# Altium footprint library Diod.PcbLib: 9 footprints
Each footprint in its own frame and in the unit in brackets; x right, y up, seen from the top. Pads: shape width x height; smd on the part's side, far side on the other; paste and mask are expansions set on the pad; w line width, h text height; cw(c..) or ccw(c..) is an arc to the next point about the centre after c.
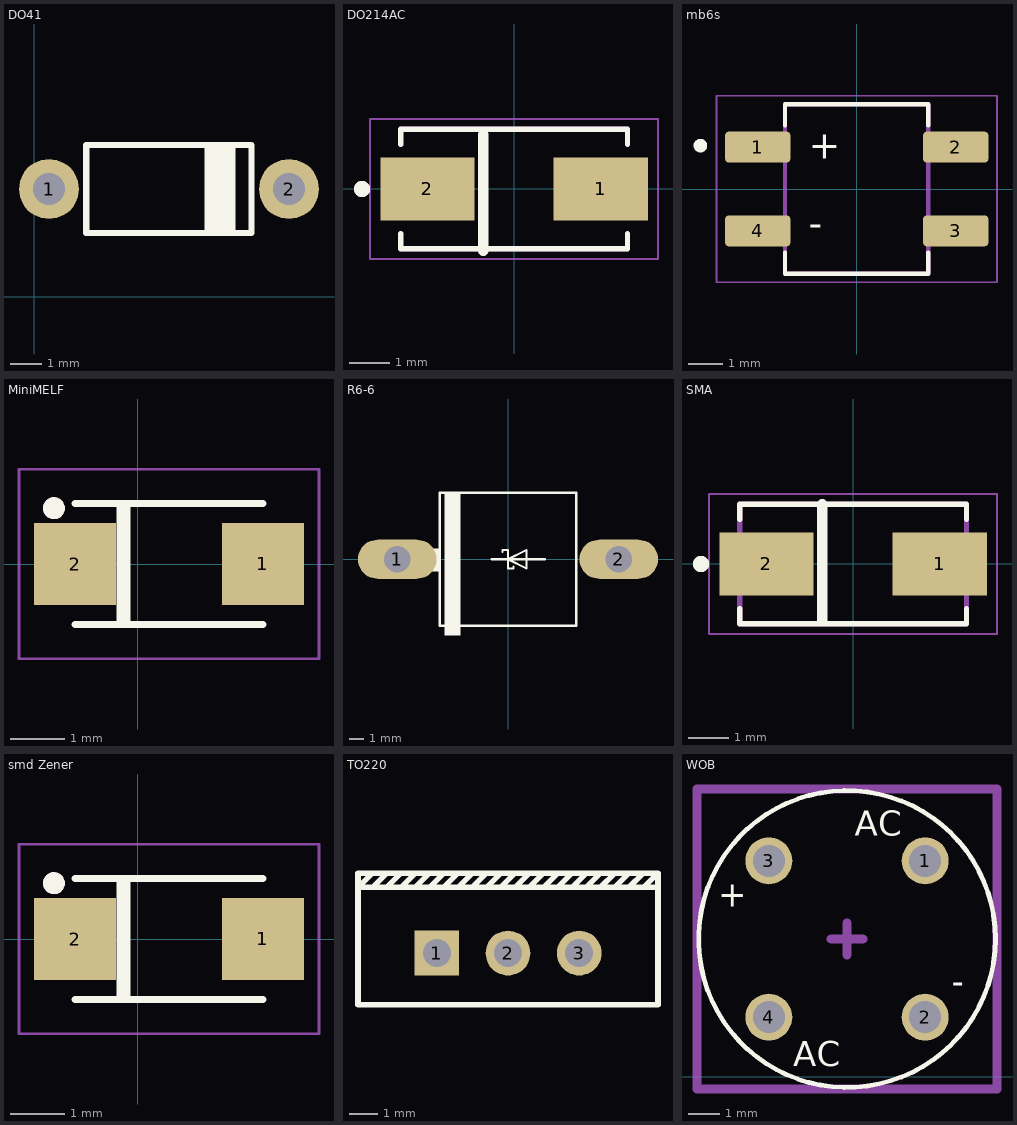
[diagram p0: the footprints below, top view; thin cyan lines are the x and y axes]

## DO41 [mil]
pads (2):
  round 75 hole 40: 1(18.62,134.53) 2(318.62,134.53)
Top Overlay:
  rectangle: 212.72,79.53 251.61,189.53
  lines w7.87: 65.08,79.53 65.08,189.53 271.77,189.53 271.77,79.53 65.08,79.53
3D body "1N4007.STEP": height 131.24, standoff -39.37, extent 2.62,82.03 333.62,187.03

## DO214AC [mm]
pads (2):
  rect 2.33x1.56 smd: 1(2.14,0) 2(-2.14,0)
Top Overlay:
  circle w0.2: c-3.755,0 r0.1
  lines w0.127: -2.8,-1.1 -2.8,-1.475 2.8,-1.475 2.8,-1.1 ; -2.8,1.1 -2.8,1.475 2.8,1.475 2.8,1.1
  lines w0.254: -0.762,-1.524 -0.762,1.348
Mechanical 13:
  circle w0.2: c-3.755,0 r0.1
  lines w0.127: -2.8,-1.475 2.8,-1.475 ; -2.8,1.475 2.8,1.475
Mechanical 15:
  lines w0.05: -3.555,-1.725 -3.555,1.725 3.555,1.725 3.555,-1.725 -3.555,-1.725
3D body "SMAJ5.0CA.STEP": height 2.55, standoff 0.05, extent -2.443,-1.397 2.697,1.163

## mb6s [mm]
pads (4):
  rrect23% 1.91x0.91 smd: 1(-2.9,1.225) 2(2.9,1.225) 3(2.9,-1.225) 4(-2.9,-1.225)
Top Overlay:
  circle w0.2: c-4.58,1.27 r0.1
  lines w0.127: -2.1,-1.86 -2.1,-2.48 2.1,-2.48 2.1,-1.86 ; -2.1,1.86 -2.1,2.48 2.1,2.48 2.1,1.86
  text "-" at -1.4,-1.4 h0.81
  text "+" at -1.399,0.89 h0.81
Mechanical 13:
  lines w0.127: -2.1,-2.48 -2.1,2.48 2.1,2.48 2.1,-2.48 -2.1,-2.48
Mechanical 15:
  lines w0.05: -4.11,-2.73 -4.11,2.73 4.11,2.73 4.11,-2.73 -4.11,-2.73
3D body: height 0.5, standoff 0, extent 1.905,0.762 3.81,1.651
3D body: height 0.5, standoff 0, extent 1.905,-1.651 3.81,-0.762
3D body: height 0.5, standoff 0, extent -3.81,0.762 -1.905,1.651
3D body: height 0.5, standoff 0, extent -3.81,-1.651 -1.905,-0.762
3D body: height 1, standoff 0.1, extent -2.032,-2.54 2.032,2.413

## MiniMELF [mm]
pads (2):
  rect 1.5x1.5 smd: 1(2.282,0) 2(-1.139,0)
Top Overlay:
  circle w0.2: c-1.524,1.016 r0.1
  lines w0.127: -1.139,-1.1 2.282,-1.1 ; -1.139,1.1 2.282,1.1
  lines w0.254: -0.254,-1.016 -0.254,1.016
Mechanical 13:
  circle w0.2: c-1.524,1.016 r0.1
Mechanical 15:
  lines w0.05: -2.159,-1.725 -2.159,1.725 3.302,1.725 3.302,-1.725 -2.159,-1.725
3D body: height 1.39, standoff 0, extent 0.582,-0.698 1.782,0.699
3D body: height 1.39, standoff 0, extent 1.782,-0.698 2.282,0.699
3D body: height 1.39, standoff 0, extent -1.139,-0.699 -0.639,0.698
3D body: height 1.39, standoff 0, extent -0.618,-0.698 0.582,0.699

## R6-6 [mil]
pads (2):
  oval 213x106.5 hole 71: 1(-300,0) 2(300,0)
Top Overlay:
  region: -130,-205.7 -171.41,-205.7 -171.41,180 -130,180
  region: 221,-32.38 213.97,-32.38 213.97,28 221,28
  region: -185,-32.26 -254.64,-32.26 -254.64,28 -185,28
  lines w6: -45,0 0,0 ; -15,20 -15,25 0,25 0,0 ; 15,-20 15,-25 0,-25 0,0 ; 100,0 0,0 ; 0,0 50,25 50,-25 0,0 ; -185,-180 -185,180 185,180 185,-180 -185,-180
Mechanical 13:
  lines w58: -300,0 -230,0 ; 230,0 300,0
3D body: height 196.85, standoff -118.11, extent -331.24,-31.43 -268.5,31.44
3D body: height 354.2, standoff 39.5, extent -114.68,-155 -75.31,159.96
3D body: height 354.33, standoff 39.37, extent -73.11,-155 163.11,159.71
3D body: height 354.2, standoff 39.5, extent -154.68,-155 -115.31,159.96
3D body: height 228.1, standoff 165.35, extent -328.74,-28.57 -171.26,34.3
3D body: height 228.1, standoff 165.35, extent 161.58,-30 334.81,32.87
3D body: height 196.85, standoff -118.11, extent 268.76,-31.43 331.5,31.44

## SMA [mm]
pads (2):
  rect 2.33x1.56 smd: 1(2.14,0) 2(-2.14,0)
Top Overlay:
  circle w0.2: c-3.755,0 r0.1
  lines w0.127: -2.8,-1.1 -2.8,-1.475 2.8,-1.475 2.8,-1.1 ; -2.8,1.1 -2.8,1.475 2.8,1.475 2.8,1.1
  lines w0.254: -0.762,-1.397 -0.762,1.475
Mechanical 13:
  circle w0.2: c-3.755,0 r0.1
  lines w0.127: -2.8,-1.475 -2.8,1.475 2.8,1.475 2.8,-1.475 -2.8,-1.475
Mechanical 15:
  lines w0.05: -3.555,-1.725 3.555,-1.725 3.555,1.725 -3.555,1.725 -3.555,-1.725
3D body "S1M--3DModel-STEP-56544.STEP": height 2.7, standoff 0, extent -2.6,-1.362 2.6,1.363

## smd Zener [mm]
pads (2):
  rect 1.5x1.5 smd: 1(2.282,0) 2(-1.139,0)
Top Overlay:
  circle w0.2: c-1.524,1.016 r0.1
  lines w0.127: -1.139,-1.1 2.282,-1.1 ; -1.139,1.1 2.282,1.1
  lines w0.254: -0.254,-1.016 -0.254,1.016
Mechanical 13:
  circle w0.2: c-1.524,1.016 r0.1
Mechanical 15:
  lines w0.05: -2.159,-1.725 -2.159,1.725 3.302,1.725 3.302,-1.725 -2.159,-1.725
3D body: height 1.39, standoff 0, extent 0.582,-0.698 1.782,0.699
3D body: height 1.39, standoff 0, extent 1.782,-0.698 2.282,0.699
3D body: height 1.39, standoff 0, extent -1.139,-0.699 -0.639,0.698
3D body: height 1.39, standoff 0, extent -0.618,-0.698 0.582,0.699

## TO220 [mm]
pads (3):
  rect 1.6x1.6 hole 1: 1(6.223,6.731)
  round 1.6 hole 1: 2(8.763,6.731) 3(11.303,6.731)
Top Overlay:
  lines w0.2: 3.413,9.081 14.113,9.081 ; 3.437,9.081 3.937,9.581 ; 3.945,9.081 4.445,9.581 ; 4.453,9.081 4.953,9.581 ; 4.961,9.081 5.461,9.581 ; 5.469,9.081 5.969,9.581 ; 5.977,9.081 6.477,9.581 ; 6.485,9.081 6.985,9.581 ; 6.993,9.081 7.493,9.581 ; 7.501,9.081 8.001,9.581 ; 8.009,9.081 8.509,9.581 ; 8.517,9.081 9.017,9.581 ; 9.025,9.081 9.525,9.581 ; 9.533,9.081 10.033,9.581 ; 10.041,9.081 10.541,9.581 ; 10.549,9.081 11.049,9.581 ; 11.057,9.081 11.557,9.581 ; 11.565,9.081 12.065,9.581 ; 12.073,9.081 12.573,9.581 ; 12.581,9.081 13.081,9.581 ; 13.089,9.081 13.589,9.581 ; 13.613,9.081 14.113,9.581 ; 14.113,9.581 14.113,4.881 3.413,4.881 3.413,9.581 14.113,9.581
Mechanical 15:
  lines w0.1: 8.263,6.731 9.263,6.731 ; 8.763,6.231 8.763,7.231
3D body "IRF640NPBF.STEP": height 21.24, standoff -10, extent 3.683,5.203 13.843,9.398

## WOB [mm]
pads (4):
  round 1.5 / inner round 1.905 / far side round 1.905 hole 1.016: 1(9.358,6.913) 2(9.358,1.913) 3(4.358,6.913) 4(4.358,1.913)
Top Overlay:
  circle w0.15: c6.858,4.413 r4.75
  text "AC" at 7.108,7.713 h0.8
  text "AC" at 5.133,0.338 h0.8
  text "+" at 2.733,5.438 h0.8
  text "-" at 10.208,2.663 h0.8
Mechanical 15:
  lines w0.3: 6.358,4.413 7.358,4.413 ; 6.858,3.913 6.858,4.913 ; 2.058,-0.387 11.658,-0.387 11.658,9.213 2.058,9.213 2.058,-0.387
3D body "User Library-WOB.STEP": height 5.9, standoff -3.2, extent 2.183,-0.262 11.483,9.038